# Altium integrated library BV100011_UniversalSlave.IntLib: 122 symbols
Pins are listed as number, name and electrical type; pins without a type are passive.

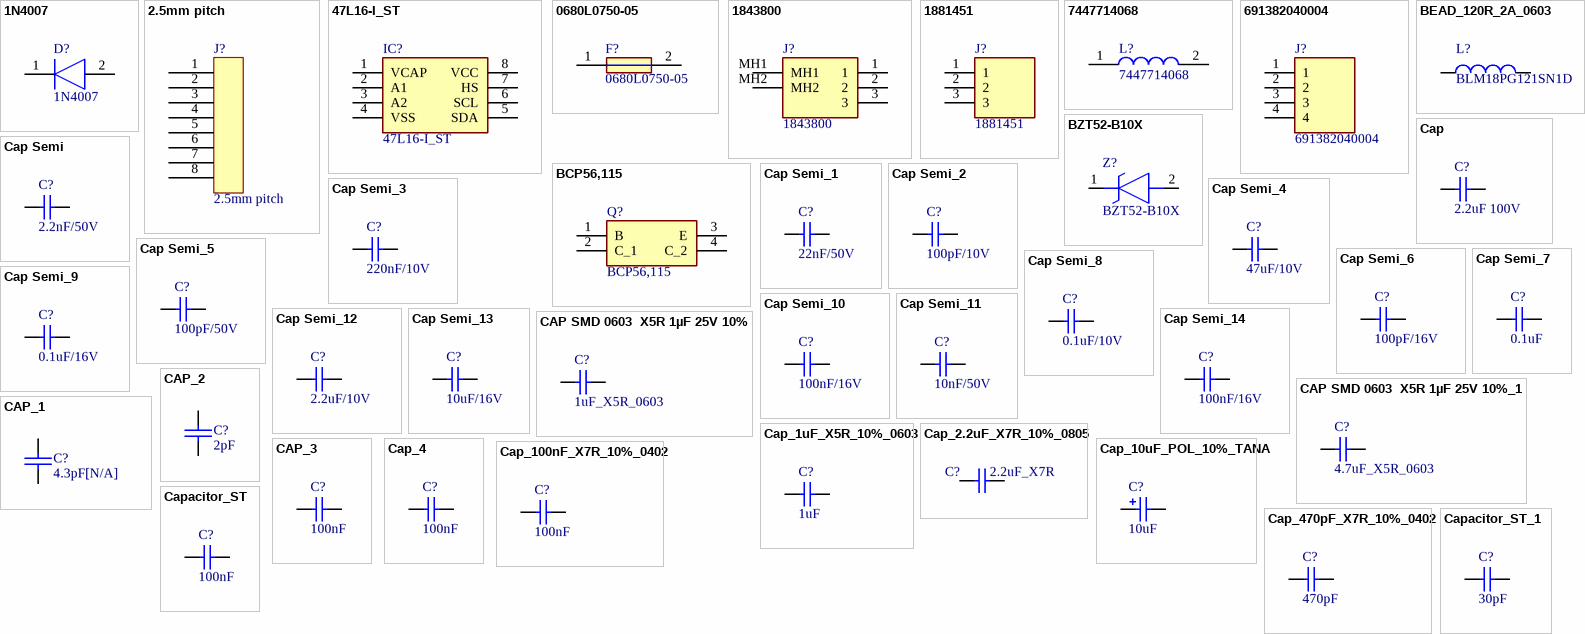
[diagram p0: symbols 1N4007 to Capacitor_ST_1]

## 1N4007
designator D?
Diode; Manufacturer_Name: Shikues
footprint DIOM5327X242N
pins: 1 K, 2 A

## 2.5mm pitch
designator J?
1881503
footprint 2.5mm pitch
pins: 1, 2, 3, 4, 5, 6, 7, 8

## 47L16-I_ST
designator IC?
Integrated Circuit; Manufacturer_Name: Microchip; Manufacturer_Part_Number: 47L16-I/ST
footprint SOP65P640X120-8N
pins: 1 VCAP, 2 A1, 3 A2, 4 VSS, 5 SDA, 6 SCL, 7 HS, 8 VCC

## 0680L0750-05
designator F?
Fuse; Manufacturer_Name: Stewart Connector
footprint FUSC6125X279N
pins: 1, 2

## 1843800
designator J?
Connector; Manufacturer_Name: Phoenix Contact
footprint 1843800
pins: 1, 2, 3, MH1, MH2

## 1881451
designator J?
Connector; Manufacturer_Name: Phoenix Contact
footprint SHDR3W100P0X250_1X3_940X1010X810P
pins: 1, 2, 3

## 7447714068
designator L?
Inductor; Manufacturer_Name: Wurth Elektronik
footprint WE-PD_1030/105054
pins: 1, 2

## 691382040004
designator J?
Connector; Manufacturer_Name: Wurth Elektronik
footprint SHDRRA4W80P0X250_1X4_2200X1010X810P
pins: 1, 2, 3, 4

## BCP56,115
designator Q?
Transistor BJT NPN; Manufacturer_Name: Nexperia
footprint SOT230P700X180-4N
pins: 1 B, 2 C_1, 3 E, 4 C_2

## BEAD_120R_2A_0603
designator L?, comment BLM18PG121SN1D
Bead,120R,2A,0603,BLM18PG121SN1D,MURATA; Manuf_Part_3: FCM1608KF-601T03; Manuf_2: TDK; Manuf_Part_2: MPZ1608S300A; Manuf_3: Tai-tech; Value: 100uH; Description_3: Bead,600R,350mA,0603,FCM1608KF-601T03,Tai-tech; Description_2: Bead,30R,5A,0603,MPZ1608S300A,TDK
footprint 0603 (Footprint not found)
footprint 0603L
pins: 1, 2

## BZT52-B10X
designator Z?
Zener Diode; Manufacturer_Name: Nexperia
footprint SODFL3616X130N
pins: 1 K, 2 A

## Cap
designator C?, comment 2.2uF 100V
Capacitor; Value: 0.01uF
footprint 1206A
footprint VP32-3.2 (Capacitor, Ceramic, Thru-Hole, Dipped Radial; Body 5.1 x 3.2 mm (WxT) Pin Spacing 2.54 mm (typ))
footprint VP45-3.2 (Capacitor, Ceramic, Thru-Hole, Dipped Radial; Body 7.8 x 3.2 mm (WxT) Pin Spacing 5.08 mm (typ))
simulation model CAP (Capacitor)
signal-integrity model Cap
footprint C1210
footprint C1206_H1P25
pins: 1, 2

## Cap Semi
designator C?, comment 2.2nF/50V
Capacitor (Semiconductor SIM Model)
footprint C1206 (Chip Capacitor, Body 3.2x1.6mm, IPC High Density)
footprint 0402 (Chip Capacitor, Body 1.0x0.5mm, IPC High Density)
footprint C2512 (Chip Capacitor, Body 2.54x1.27mm, IPC High Density)
footprint 1608[0603] (Chip Capacitor, Body 1.6x0.8mm, IPC High Density)
footprint C1210 (Chip Capacitor, Body 3.2x2.5mm, IPC High Density)
simulation model CAP (Semiconductor Capacitor)
signal-integrity model Cap Semi
pins: 1, 2

## Cap Semi_1
designator C?, comment 22nF/50V
Capacitor (Semiconductor SIM Model)
footprint C1206 (Chip Capacitor, Body 3.2x1.6mm, IPC High Density)
footprint 0402 (Chip Capacitor, Body 1.0x0.5mm, IPC High Density)
footprint C2512 (Chip Capacitor, Body 2.54x1.27mm, IPC High Density)
footprint 1608[0603] (Chip Capacitor, Body 1.6x0.8mm, IPC High Density)
footprint C1210 (Chip Capacitor, Body 3.2x2.5mm, IPC High Density)
simulation model CAP (Semiconductor Capacitor)
signal-integrity model Cap Semi
pins: 1, 2

## Cap Semi_2
designator C?, comment 100pF/10V
Capacitor (Semiconductor SIM Model)
footprint C1206 (Chip Capacitor, Body 3.2x1.6mm, IPC High Density)
footprint 0402 (Chip Capacitor, Body 1.0x0.5mm, IPC High Density)
footprint C2512 (Chip Capacitor, Body 2.54x1.27mm, IPC High Density)
footprint 1608[0603] (Chip Capacitor, Body 1.6x0.8mm, IPC High Density)
footprint C1210 (Chip Capacitor, Body 3.2x2.5mm, IPC High Density)
simulation model CAP (Semiconductor Capacitor)
signal-integrity model Cap Semi
pins: 1, 2

## Cap Semi_3
designator C?, comment 220nF/10V
Capacitor (Semiconductor SIM Model)
footprint C1206 (Chip Capacitor, Body 3.2x1.6mm, IPC High Density)
footprint 0402 (Chip Capacitor, Body 1.0x0.5mm, IPC High Density)
footprint C2512 (Chip Capacitor, Body 2.54x1.27mm, IPC High Density)
footprint 1608[0603] (Chip Capacitor, Body 1.6x0.8mm, IPC High Density)
footprint C1210 (Chip Capacitor, Body 3.2x2.5mm, IPC High Density)
simulation model CAP (Semiconductor Capacitor)
signal-integrity model Cap Semi
pins: 1, 2

## Cap Semi_4
designator C?, comment 47uF/10V
Capacitor (Semiconductor SIM Model)
footprint C1206 (Chip Capacitor, Body 3.2x1.6mm, IPC High Density)
footprint 0402 (Chip Capacitor, Body 1.0x0.5mm, IPC High Density)
footprint C2512 (Chip Capacitor, Body 2.54x1.27mm, IPC High Density)
footprint 1608[0603] (Chip Capacitor, Body 1.6x0.8mm, IPC High Density)
footprint C1210 (Chip Capacitor, Body 3.2x2.5mm, IPC High Density)
simulation model CAP (Semiconductor Capacitor)
signal-integrity model Cap Semi
pins: 1, 2

## Cap Semi_5
designator C?, comment 100pF/50V
Capacitor (Semiconductor SIM Model)
footprint C1206 (Chip Capacitor, Body 3.2x1.6mm, IPC High Density)
footprint 0402 (Chip Capacitor, Body 1.0x0.5mm, IPC High Density)
footprint C2512 (Chip Capacitor, Body 2.54x1.27mm, IPC High Density)
footprint 1608[0603] (Chip Capacitor, Body 1.6x0.8mm, IPC High Density)
footprint C1210 (Chip Capacitor, Body 3.2x2.5mm, IPC High Density)
simulation model CAP (Semiconductor Capacitor)
signal-integrity model Cap Semi
pins: 1, 2

## Cap Semi_6
designator C?, comment 100pF/16V
Capacitor (Semiconductor SIM Model)
footprint C1206 (Chip Capacitor, Body 3.2x1.6mm, IPC High Density)
footprint 0402 (Chip Capacitor, Body 1.0x0.5mm, IPC High Density)
footprint C2512 (Chip Capacitor, Body 2.54x1.27mm, IPC High Density)
footprint 1608[0603] (Chip Capacitor, Body 1.6x0.8mm, IPC High Density)
footprint C1210 (Chip Capacitor, Body 3.2x2.5mm, IPC High Density)
simulation model CAP (Semiconductor Capacitor)
signal-integrity model Cap Semi
pins: 1, 2

## Cap Semi_7
designator C?, comment 0.1uF
Capacitor (Semiconductor SIM Model); Value: 100pF/16V
footprint C1206 (Chip Capacitor, Body 3.2x1.6mm, IPC High Density)
footprint 0402 (Chip Capacitor, Body 1.0x0.5mm, IPC High Density)
footprint C2512 (Chip Capacitor, Body 2.54x1.27mm, IPC High Density)
footprint 1608[0603] (Chip Capacitor, Body 1.6x0.8mm, IPC High Density)
footprint C1210 (Chip Capacitor, Body 3.2x2.5mm, IPC High Density)
simulation model CAP (Semiconductor Capacitor)
signal-integrity model Cap Semi
pins: 1, 2

## Cap Semi_8
designator C?, comment 0.1uF/10V
Capacitor (Semiconductor SIM Model)
footprint C1206 (Chip Capacitor, Body 3.2x1.6mm, IPC High Density)
footprint 0402 (Chip Capacitor, Body 1.0x0.5mm, IPC High Density)
footprint C2512 (Chip Capacitor, Body 2.54x1.27mm, IPC High Density)
footprint 1608[0603] (Chip Capacitor, Body 1.6x0.8mm, IPC High Density)
footprint C1210 (Chip Capacitor, Body 3.2x2.5mm, IPC High Density)
simulation model CAP (Semiconductor Capacitor)
signal-integrity model Cap Semi
pins: 1, 2

## Cap Semi_9
designator C?, comment 0.1uF/16V
Capacitor (Semiconductor SIM Model)
footprint C1206 (Chip Capacitor, Body 3.2x1.6mm, IPC High Density)
footprint 0402 (Chip Capacitor, Body 1.0x0.5mm, IPC High Density)
footprint C2512 (Chip Capacitor, Body 2.54x1.27mm, IPC High Density)
footprint 1608[0603] (Chip Capacitor, Body 1.6x0.8mm, IPC High Density)
footprint C1210 (Chip Capacitor, Body 3.2x2.5mm, IPC High Density)
simulation model CAP (Semiconductor Capacitor)
signal-integrity model Cap Semi
pins: 1, 2

## Cap Semi_10
designator C?, comment 100nF/16V
Capacitor (Semiconductor SIM Model)
footprint C1206 (Chip Capacitor, Body 3.2x1.6mm, IPC High Density)
footprint 0402 (Chip Capacitor, Body 1.0x0.5mm, IPC High Density)
footprint C2512 (Chip Capacitor, Body 2.54x1.27mm, IPC High Density)
footprint 1608[0603] (Chip Capacitor, Body 1.6x0.8mm, IPC High Density)
footprint C1210 (Chip Capacitor, Body 3.2x2.5mm, IPC High Density)
simulation model CAP (Semiconductor Capacitor)
signal-integrity model Cap Semi
pins: 1, 2

## Cap Semi_11
designator C?, comment 10nF/50V
Capacitor (Semiconductor SIM Model)
footprint C1206 (Chip Capacitor, Body 3.2x1.6mm, IPC High Density)
footprint 0402 (Chip Capacitor, Body 1.0x0.5mm, IPC High Density)
footprint C2512 (Chip Capacitor, Body 2.54x1.27mm, IPC High Density)
footprint 1608[0603] (Chip Capacitor, Body 1.6x0.8mm, IPC High Density)
footprint C1210 (Chip Capacitor, Body 3.2x2.5mm, IPC High Density)
simulation model CAP (Semiconductor Capacitor)
signal-integrity model Cap Semi
pins: 1, 2

## Cap Semi_12
designator C?, comment 2.2uF/10V
Capacitor (Semiconductor SIM Model)
footprint C1206 (Chip Capacitor, Body 3.2x1.6mm, IPC High Density)
footprint 0402 (Chip Capacitor, Body 1.0x0.5mm, IPC High Density)
footprint C2512 (Chip Capacitor, Body 2.54x1.27mm, IPC High Density)
footprint 1608[0603] (Chip Capacitor, Body 1.6x0.8mm, IPC High Density)
footprint C1210 (Chip Capacitor, Body 3.2x2.5mm, IPC High Density)
simulation model CAP (Semiconductor Capacitor)
signal-integrity model Cap Semi
pins: 1, 2

## Cap Semi_13
designator C?, comment 10uF/16V
Capacitor (Semiconductor SIM Model); Value: 2.2nF/50V
footprint C1206 (Chip Capacitor, Body 3.2x1.6mm, IPC High Density)
footprint 0402 (Chip Capacitor, Body 1.0x0.5mm, IPC High Density)
footprint C2512 (Chip Capacitor, Body 2.54x1.27mm, IPC High Density)
footprint 1608[0603] (Chip Capacitor, Body 1.6x0.8mm, IPC High Density)
footprint C1210 (Chip Capacitor, Body 3.2x2.5mm, IPC High Density)
simulation model CAP (Semiconductor Capacitor)
signal-integrity model Cap Semi
pins: 1, 2

## Cap Semi_14
designator C?, comment 100nF/16V
Capacitor (Semiconductor SIM Model); Value: 2.2nF/50V
footprint C1206 (Chip Capacitor, Body 3.2x1.6mm, IPC High Density)
footprint 0402 (Chip Capacitor, Body 1.0x0.5mm, IPC High Density)
footprint C2512 (Chip Capacitor, Body 2.54x1.27mm, IPC High Density)
footprint 1608[0603] (Chip Capacitor, Body 1.6x0.8mm, IPC High Density)
footprint C1210 (Chip Capacitor, Body 3.2x2.5mm, IPC High Density)
simulation model CAP (Semiconductor Capacitor)
signal-integrity model Cap Semi
pins: 1, 2

## CAP SMD 0603  X5R 1µF 25V 10%
designator C?, comment 1uF_X5R_0603
0603  X5R 1µF; Rated voltage: 25V; Tolerance: 10%
footprint 0603C (Footprint not found)
3D model 0603_0_0000_R (PCB3D Model)
simulation model Capacitor
signal-integrity model Capacitor
pins: 1, 2

## CAP SMD 0603  X5R 1µF 25V 10%_1
designator C?, comment 4.7uF_X5R_0603
0603  X5R 4.7uF; Value: 1µF; Rated voltage: 25V; Tolerance: 10%
footprint 0603C (Footprint not found)
3D model 0603_0_0000_R (PCB3D Model)
simulation model Capacitor
signal-integrity model Capacitor
pins: 1, 2

## CAP_1
designator C?, comment 4.3pF[N/A]
Capacitor
footprint 0603 (Footprint not found)
footprint 0603C
pins: 1, 2
2 alternate drawings of the same symbol

## Cap_1uF_X5R_10%_0603
designator C?, comment 1uF
Capacitor,1uF,16V,X5R,10%,0603,YAGEO; Manuf_Part_1: CC0603KRX5R7BB105
simulation model CAP (Capacitor)
signal-integrity model Cap
footprint 0603C
pins: 1, 2

## CAP_2
designator C?, comment 2pF
Capacitor
footprint 0603 (Footprint not found)
footprint 0603C
pins: 1, 2

## Cap_2.2uF_X7R_10%_0805
designator C?, comment 2.2uF_X7R
Capacitor,2.2uF,16V, X7R,10%,0805,YAGEO; Manuf_Part_1: CC0805KKX7R7BB225
simulation model CAP (Capacitor)
signal-integrity model Cap
footprint 0805C
footprint TAN-A
pins: 1, 2

## CAP_3
designator C?, comment 100nF
Capacitor; Value: 100pF
footprint RAD-0.3 (Capacitor; 2 Leads)
simulation model CAP (Capacitor)
signal-integrity model Cap
footprint CAPR5.08-7.8X3.2
footprint CAPR2.54-5.1X3.2
footprint 0603
footprint 0603P
footprint 0603C
footprint 0402C
pins: 1, 2

## Cap_4
designator C?, comment 100nF
Capacitor; Value: 10nF
simulation model CAP (Capacitor)
signal-integrity model Cap
footprint 0603 (Footprint not found)
footprint 0603C (Footprint not found)
pins: 1, 2

## Cap_10uF_POL_10%_TANA
designator C?, comment 10uF
Polarized Capacitor,10uF,10V,10%,typeA,VISHAY; Manuf_Part_1: 293D106X9010A2TE3
simulation model CAP (Capacitor)
signal-integrity model C200M
footprint TAN-A
pins: 1, 2

## Cap_100nF_X7R_10%_0402
designator C?, comment 100nF
Capacitor,100nF,16V,X7R,10%,0402,YAGEO; Manuf_Part_1: CC0402KRX7R7BB104
simulation model CAP (Capacitor)
signal-integrity model Cap
footprint 0402C
pins: 1, 2

## Cap_470pF_X7R_10%_0402
designator C?, comment 470pF
Capacitor,470pF,16V,X7R,10%,0402,YAGEO; Manuf_Part_1: 0402YC471KAT4A; Manuf_1: AVX
simulation model CAP (Capacitor)
signal-integrity model Cap
footprint 0402C
pins: 1, 2

## Capacitor_ST
designator C?, comment 100nF
Capacitor 0402 / 0603 / 0805
simulation model CAP (Capacitor)
signal-integrity model Cap
footprint 0603C
footprint 0402C
footprint 0805C (Footprint not found)
pins: 1, 2

## Capacitor_ST_1
designator C?, comment 30pF
Capacitor 0402 / 0603 / 0805; Value: 100nF
simulation model CAP (Capacitor)
signal-integrity model Cap
footprint 0603C
footprint 0402C
footprint 0805C (Footprint not found)
pins: 1, 2

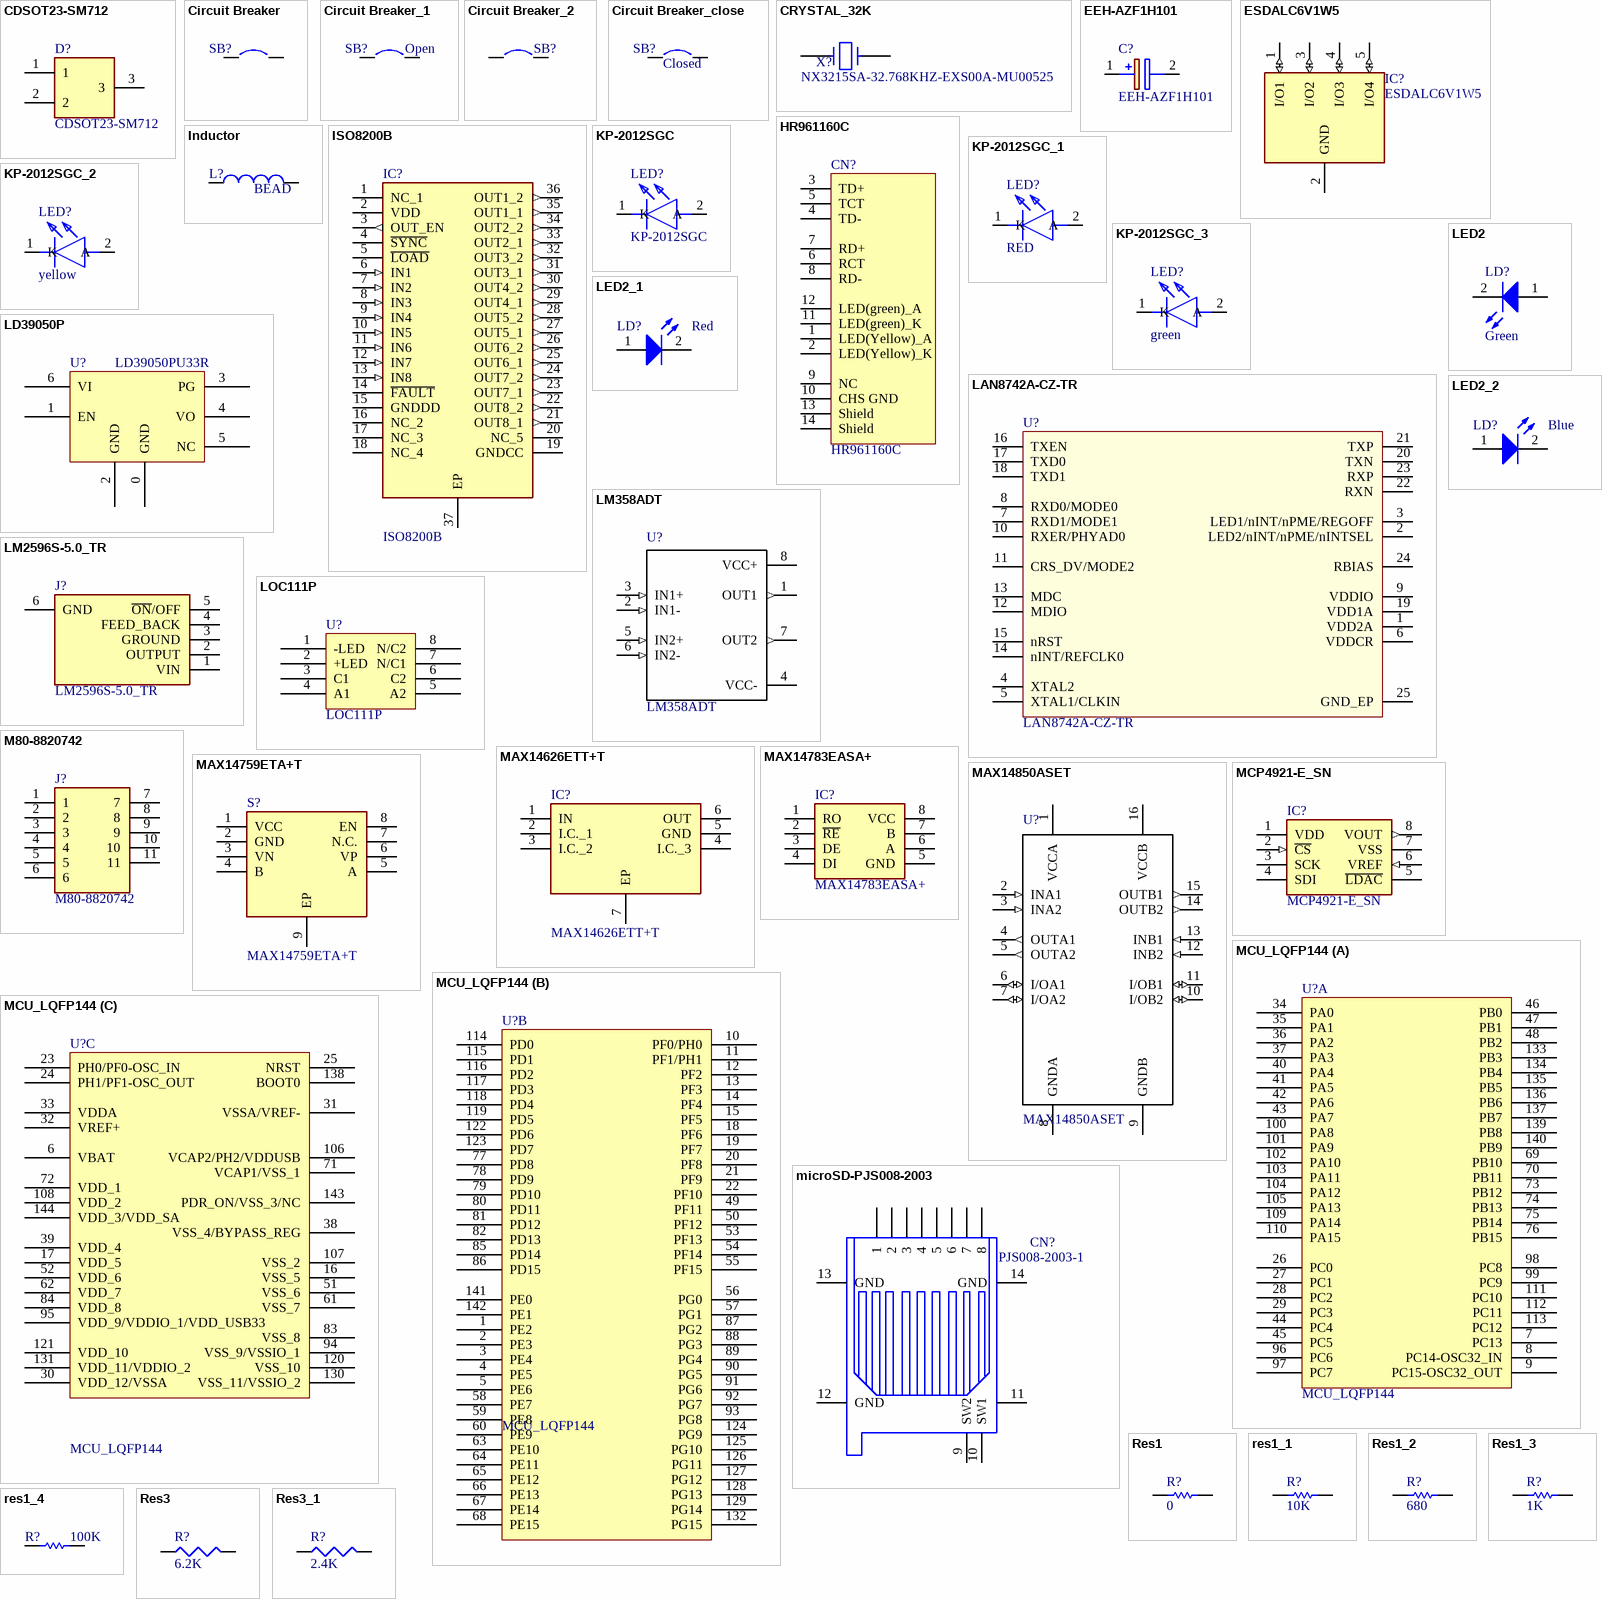
[diagram p1: symbols CDSOT23-SM712 to Res3_1]

## CDSOT23-SM712
designator D?
Diode; Manufacturer_Name: Bourns; Allied_Number: 70154680
footprint SOT95P230X117-3N
pins: 1, 2, 3

## Circuit Breaker
designator SB?  (value not drawn)
Solder: NO
footprint SPST-2 (Circuit Breaker; 2 Leads)
footprint JP2_SMD
footprint SB_0603 (Footprint not found)
pins: 1, 2

## Circuit Breaker_1
designator SB?, comment Open
Circuit Breaker
footprint SPST-2 (Circuit Breaker; 2 Leads)
footprint JP2_SMD
footprint SB_0603 (Footprint not found)
pins: 1, 2

## Circuit Breaker_2
designator SB?, comment Circuit Breaker  (value not drawn)
Solder: NO
footprint SPST-2 (Circuit Breaker; 2 Leads)
footprint JP2_SMD
footprint SB_0603 (Footprint not found)
pins: 1, 2

## Circuit Breaker_close
designator SB?, comment Closed
Circuit Breaker
footprint SPST-2 (Circuit Breaker; 2 Leads)
footprint JP2_SMD
footprint SB_0603 (Footprint not found)
pins: 1, 2

## CRYSTAL_32K
designator X?, comment NX3215SA-32.768KHZ-EXS00A-MU00525
Crystal
footprint XTAL1 (Footprint not found)
footprint XTAL_2SM_3R2X1R5 (Footprint not found)
pins: 1, 2
2 alternate drawings of the same symbol

## EEH-AZF1H101
designator C?
Capacitor Polarised; Manufacturer_Name: Panasonic
footprint CAPPRD500W65D1000H1050
pins: 1 +, 2 -

## ESDALC6V1W5
designator IC?
Integrated Circuit; Manufacturer_Name: STMicroelectronics; Allied_Number: 70389952
footprint SOT65P210X110-5N
footprint SOT65P210X110-5N
pins: 1 I/O1 (io), 2 GND (power), 3 I/O2 (io), 4 I/O3 (io), 5 I/O4 (io)

## HR961160C
designator CN?
100 Base-TX (Fast Ethernet) SMD RJ45 single port (1x1) with LEDS Integrated Magnetics Connector; Manuf_1: HanRun; Manuf_2: Pulse Electronics Corporation; Manuf_Part_2: J3011G21DNLT; Manuf_3: K.O.D International Holding; Manuf_Part_3: RMT-119A-12F6-GY-04
footprint RJ45_HR961160C (Footprint not found)
pins: 1 LED(Yellow)_A, 2 LED(Yellow)_K, 3 TD+, 4 TD-, 5 TCT, 6 RCT, 7 RD+, 8 RD-, 9 NC, 10 CHS GND, 11 LED(green)_K, 12 LED(green)_A, 13 Shield, 14 Shield

## Inductor
designator L?, comment BEAD
Inductor; Value: 100uH
footprint 0603 (Footprint not found)
footprint 0603C
footprint 0603L
pins: 1, 2

## ISO8200B
designator IC?
Integrated Circuit; Manufacturer_Name: STMicroelectronics
footprint SOP65P1420X360-37N
pins: 1 NC_1, 2 VDD (power), 3 OUT_EN (out), 4 ~{SYNC}, 5 ~{LOAD}, 6 IN1 (in), 7 IN2 (in), 8 IN3 (in), 9 IN4 (in), 10 IN5 (in), 11 IN6 (in), 12 IN7 (in), 13 IN8 (in), 14 ~{FAULT}, 15 GNDDD (power), 16 NC_2, 17 NC_3, 18 NC_4, 19 GNDCC (power), 20 NC_5, 21 OUT8_1 (out), 22 OUT8_2 (out), 23 OUT7_1 (out), 24 OUT7_2 (out), 25 OUT6_1 (out), 26 OUT6_2 (out), 27 OUT5_1 (out), 28 OUT5_2 (out), 29 OUT4_1 (out), 30 OUT4_2 (out), 31 OUT3_1 (out), 32 OUT3_2 (out), 33 OUT2_1 (out), 34 OUT2_2 (out), 35 OUT1_1 (out), 36 OUT1_2 (out), 37 EP (power)

## KP-2012SGC
designator LED?
LED; Manufacturer_Name: Kingbright
footprint LEDC2012X110N
pins: 1 K, 2 A

## KP-2012SGC_1
designator LED?, comment RED
LED; Manufacturer_Name: Kingbright; Manufacturer_Part_Number: KP-2012SGC
footprint LEDC2012X110N
pins: 1 K, 2 A

## KP-2012SGC_2
designator LED?, comment yellow
LED; Manufacturer_Name: Kingbright; Manufacturer_Part_Number: KP-2012SGC
footprint LEDC2012X110N
pins: 1 K, 2 A

## KP-2012SGC_3
designator LED?, comment green
LED; Manufacturer_Name: Kingbright; Manufacturer_Part_Number: KP-2012SGC
footprint LEDC2012X110N
pins: 1 K, 2 A

## LAN8742A-CZ-TR
designator U?
LAN8742A-CZ-TR - Small Footprint RMII 10/100 Ethernet, Transceiver with HP Auto-MDIX and flexPWR Technology SQFN-24; Manuf_1: MICROCHIP
footprint QFN24_0R5_4X4 (Footprint not found)
pins: 1 VDD2A, 2 LED2/nINT/nPME/nINTSEL, 3 LED1/nINT/nPME/REGOFF, 4 XTAL2, 5 XTAL1/CLKIN, 6 VDDCR, 7 RXD1/MODE1, 8 RXD0/MODE0, 9 VDDIO, 10 RXER/PHYAD0, 11 CRS_DV/MODE2, 12 MDIO, 13 MDC, 14 nINT/REFCLK0, 15 nRST, 16 TXEN, 17 TXD0, 18 TXD1, 19 VDD1A, 20 TXN, 21 TXP, 22 RXN, 23 RXP, 24 RBIAS, 25 GND_EP

## LD39050P
designator U?, comment LD39050PU33R
footprint DFN6
footprint DFN6(3X3)
footprint DFN6_0R95_3x3_TP (Footprint not found)
pins: 0 GND, 1 EN, 2 GND, 3 PG, 4 VO, 5 NC, 6 VI

## LED2
designator LD?, comment Green
Typical RED, GREEN, YELLOW, AMBER GaAs LED
footprint D0603 (Footprint not found)
footprint 0603D-G (Footprint not found)
pins: 1 A, 2 K

## LED2_1
designator LD?, comment Red
Typical RED, GREEN, YELLOW, AMBER GaAs LED
footprint D0603 (Footprint not found)
footprint 0603D-R (Footprint not found)
pins: 1 A, 2 K

## LED2_2
designator LD?, comment Blue
Typical RED, GREEN, YELLOW, AMBER GaAs LED
footprint D0603 (Footprint not found)
footprint 0603D-B (Footprint not found)
pins: 1 A, 2 K

## LM358ADT
designator U?
LM358 Series 30 V 1.1 MHz Low Power Dual Operational Amplifier - SOIC-8; MF: STMicroelectronics
footprint *SOIC127P600X175-8N
pins: 1 OUT1 (out), 2 IN1- (in), 3 IN1+ (in), 4 VCC- (power), 5 IN2+ (in), 6 IN2- (in), 7 OUT2 (out), 8 VCC+ (power)

## LM2596S-5.0_TR
designator J?
Connector; Manufacturer_Name: National Electronics; Manufacturer_Part_Number: LM2596S-5.0/TR
footprint LM2596S50TR
pins: 1 VIN, 2 OUTPUT, 3 GROUND, 4 FEED_BACK, 5 ~{ON}/OFF, 6 GND

## LOC111P
designator U?
Linear Optocoupler
footprint SOP254P940X265-8N (SOP, 8-Leads, Body 9.65x6.35mm, Pitch 2.54mm, IPC Medium Density)
pins: 1 -LED, 2 +LED, 3 C1, 4 A1, 5 A2, 6 C2, 7 N/C1, 8 N/C2

## M80-8820742
designator J?
Connector; Manufacturer_Name: Harwin
footprint M80-8820742
pins: 1, 2, 3, 4, 5, 6, 7, 8, 9, 10, 11

## MAX14626ETT+T
designator IC?
Integrated Circuit; Manufacturer_Name: Maxim Integrated
footprint SON95P300X300X80-7N
pins: 1 IN, 2 I.C._1, 3 I.C._2, 4 I.C._3, 5 GND, 6 OUT, 7 EP

## MAX14759ETA+T
designator S?
Switch; Manufacturer_Name: Maxim Integrated
footprint SON65P300X300X80-9N
pins: 1 VCC (power), 2 GND (power), 3 VN, 4 B, 5 A, 6 VP, 7 N.C., 8 EN, 9 EP

## MAX14783EASA+
designator IC?
Integrated Circuit; Manufacturer_Name: Maxim Integrated
footprint SOIC127P600X175-8N
pins: 1 RO, 2 ~{RE}, 3 DE, 4 DI, 5 GND, 6 A, 7 B, 8 VCC

## MAX14850ASET
designator U?
Digital Isolator, 6-Ch, 30ns, Nsoic-16; MF: Maxim Integrated; MP: MAX14850ASE+
footprint *SOIC127P600X175-16N
footprint *SOIC127P600X175-16N
pins: 1 VCCA (power), 2 INA1 (in), 3 INA2 (in), 4 OUTA1 (out), 5 OUTA2 (out), 6 I/OA1 (io), 7 I/OA2 (io), 8 GNDA (power), 9 GNDB (power), 10 I/OB2 (io), 11 I/OB1 (io), 12 INB2 (in), 13 INB1 (in), 14 OUTB2 (out), 15 OUTB1 (out), 16 VCCB (power)

## MCP4921-E_SN
designator IC?
Integrated Circuit; Manufacturer_Name: Microchip; Manufacturer_Part_Number: MCP4921-E/SN; Allied_Number: 70046155
footprint SOIC127P600X175-8N
pins: 1 VDD (power), 2 ~{CS} (in), 3 SCK, 4 SDI, 5 ~{LDAC}, 6 VREF (in), 7 VSS (power), 8 VOUT (out)

## MCU_LQFP144
designator U?
footprint TQFP144_M (Footprint not found)
footprint IC149-144-045-B5
footprint LQFP144 (Footprint not found)
footprint LQFP144_0R5_SKT (Footprint not found)
part A pins: 7 PC13, 8 PC14-OSC32_IN, 9 PC15-OSC32_OUT, 26 PC0, 27 PC1, 28 PC2, 29 PC3, 34 PA0, 35 PA1, 36 PA2, 37 PA3, 40 PA4, 41 PA5, 42 PA6, 43 PA7, 44 PC4, 45 PC5, 46 PB0, 47 PB1, 48 PB2, 69 PB10, 70 PB11, 73 PB12, 74 PB13, 75 PB14, 76 PB15, 96 PC6, 97 PC7, 98 PC8, 99 PC9, 100 PA8, 101 PA9, 102 PA10, 103 PA11, 104 PA12, 105 PA13, 109 PA14, 110 PA15, 111 PC10, 112 PC11, 113 PC12, 133 PB3, 134 PB4, 135 PB5, 136 PB6, 137 PB7, 139 PB8, 140 PB9
part B pins: 1 PE2, 2 PE3, 3 PE4, 4 PE5, 5 PE6, 10 PF0/PH0, 11 PF1/PH1, 12 PF2, 13 PF3, 14 PF4, 15 PF5, 18 PF6, 19 PF7, 20 PF8, 21 PF9, 22 PF10, 49 PF11, 50 PF12, 53 PF13, 54 PF14, 55 PF15, 56 PG0, 57 PG1, 58 PE7, 59 PE8, 60 PE9, 63 PE10, 64 PE11, 65 PE12, 66 PE13, 67 PE14, 68 PE15, 77 PD8, 78 PD9, 79 PD10, 80 PD11, 81 PD12, 82 PD13, 85 PD14, 86 PD15, 87 PG2, 88 PG3, 89 PG4, 90 PG5, 91 PG6, 92 PG7, 93 PG8, 114 PD0, 115 PD1, 116 PD2, 117 PD3, 118 PD4, 119 PD5, 122 PD6, 123 PD7, 124 PG9, 125 PG10, 126 PG11, 127 PG12, 128 PG13, 129 PG14, 132 PG15, 141 PE0, 142 PE1
part C pins: 6 VBAT, 16 VSS_5, 17 VDD_5, 23 PH0/PF0-OSC_IN, 24 PH1/PF1-OSC_OUT, 25 NRST, 30 VDD_12/VSSA, 31 VSSA/VREF-, 32 VREF+, 33 VDDA, 38 VSS_4/BYPASS_REG, 39 VDD_4, 51 VSS_6, 52 VDD_6, 61 VSS_7, 62 VDD_7, 71 VCAP1/VSS_1, 72 VDD_1, 83 VSS_8, 84 VDD_8, 94 VSS_9/VSSIO_1, 95 VDD_9/VDDIO_1/VDD_USB33, 106 VCAP2/PH2/VDDUSB, 107 VSS_2, 108 VDD_2, 120 VSS_10, 121 VDD_10, 130 VSS_11/VSSIO_2, 131 VDD_11/VDDIO_2, 138 BOOT0, 143 PDR_ON/VSS_3/NC, 144 VDD_3/VDD_SA

## microSD-PJS008-2003
designator CN?, comment PJS008-2003-1
Memory Card Connectors MicroSD Card Conn Revrs Mnt Push-Push; Manuf_1: YAMAICHI
footprint PJS008-2003-1
pins: 1, 2, 3, 4, 5, 6, 7, 8, 9 SW2, 10 SW1, 11 GND, 12 GND, 13 GND, 14 GND

## Res1
designator R?, comment 0
Resistor; Value: 1K
footprint AXIAL-0.3 (Resistor; 2 Leads)
simulation model RESISTOR (Resistor)
signal-integrity model Res
footprint 0603
footprint 0805
footprint 0603R
pins: 1, 2
1 alternate drawing of the same symbol

## res1_1
designator R?, comment 10K
Resistor; Value: 1K
footprint AXIAL-0.3 (Resistor; 2 Leads)
simulation model RESISTOR (Resistor)
signal-integrity model Res
footprint 0603
footprint 0603R (Footprint not found)
pins: 1, 2
1 alternate drawing of the same symbol

## Res1_2
designator R?, comment 680
Resistor; Value: 1K
footprint AXIAL-0.3 (Resistor; 2 Leads)
simulation model RESISTOR (Resistor)
signal-integrity model Res
footprint 0603
footprint 0805
footprint 0402R
footprint 0603R
pins: 1, 2
1 alternate drawing of the same symbol

## Res1_3
designator R?, comment 1K
Resistor
footprint AXIAL-0.3 (Resistor; 2 Leads)
simulation model RESISTOR (Resistor)
signal-integrity model Res
footprint 0603
footprint 0805
footprint 0402R
footprint 0603R
pins: 1, 2
1 alternate drawing of the same symbol

## res1_4
designator R?, comment 100K
Resistor; Value: 1K
footprint AXIAL-0.3 (Resistor; 2 Leads)
simulation model RESISTOR (Resistor)
signal-integrity model Res
footprint 0603
footprint 0603R (Footprint not found)
pins: 1, 2
1 alternate drawing of the same symbol

## Res3
designator R?, comment 6.2K
Resistor
footprint J1-0603 (Chip Resistor, Body 1.6x0.8mm, IPC High Density)
footprint 14-1210 (Chip Resistor, Body 3.2x2.5mm, IPC High Density)
footprint 12Z-2010 (Chip Resistor, Body 5.0x2.5mm, IPC High Density)
footprint RESC6332 (Chip Resistor, Body 6.3x3.2mm, IPC High Density)
simulation model RESISTOR (Resistor)
signal-integrity model Res
pins: 1, 2

## Res3_1
designator R?, comment 2.4K
Resistor
footprint J1-0603 (Chip Resistor, Body 1.6x0.8mm, IPC High Density)
footprint 14-1210 (Chip Resistor, Body 3.2x2.5mm, IPC High Density)
footprint 12Z-2010 (Chip Resistor, Body 5.0x2.5mm, IPC High Density)
footprint RESC6332 (Chip Resistor, Body 6.3x3.2mm, IPC High Density)
simulation model RESISTOR (Resistor)
signal-integrity model Res
pins: 1, 2

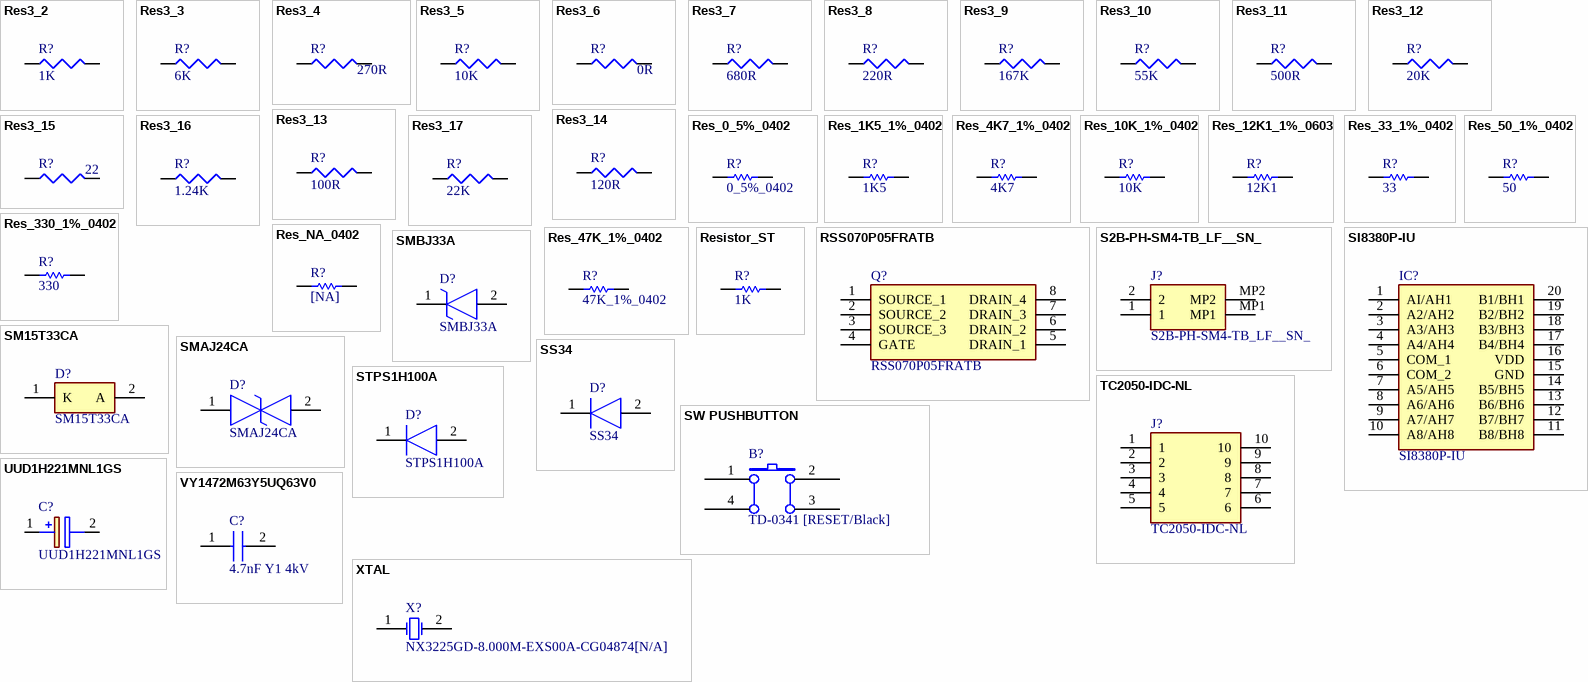
[diagram p2: symbols Res3_2 to XTAL]

## Res3_2
designator R?, comment 1K
Resistor
footprint J1-0603 (Chip Resistor, Body 1.6x0.8mm, IPC High Density)
footprint 14-1210 (Chip Resistor, Body 3.2x2.5mm, IPC High Density)
footprint 12Z-2010 (Chip Resistor, Body 5.0x2.5mm, IPC High Density)
footprint RESC6332 (Chip Resistor, Body 6.3x3.2mm, IPC High Density)
simulation model RESISTOR (Resistor)
signal-integrity model Res
footprint 0402 (Chip Capacitor, Body 1.0x0.5mm, IPC High Density)
pins: 1, 2

## Res3_3
designator R?, comment 6K
Resistor
footprint J1-0603 (Chip Resistor, Body 1.6x0.8mm, IPC High Density)
footprint 14-1210 (Chip Resistor, Body 3.2x2.5mm, IPC High Density)
footprint 12Z-2010 (Chip Resistor, Body 5.0x2.5mm, IPC High Density)
footprint RESC6332 (Chip Resistor, Body 6.3x3.2mm, IPC High Density)
simulation model RESISTOR (Resistor)
signal-integrity model Res
footprint 0805R
pins: 1, 2

## Res3_4
designator R?, comment 270R
Resistor
footprint J1-0603 (Chip Resistor, Body 1.6x0.8mm, IPC High Density)
footprint 14-1210 (Chip Resistor, Body 3.2x2.5mm, IPC High Density)
footprint 12Z-2010 (Chip Resistor, Body 5.0x2.5mm, IPC High Density)
footprint RESC6332 (Chip Resistor, Body 6.3x3.2mm, IPC High Density)
simulation model RESISTOR (Resistor)
signal-integrity model Res
footprint 0402 (Chip Capacitor, Body 1.0x0.5mm, IPC High Density)
pins: 1, 2

## Res3_5
designator R?, comment 10K
Resistor
footprint J1-0603 (Chip Resistor, Body 1.6x0.8mm, IPC High Density)
footprint 14-1210 (Chip Resistor, Body 3.2x2.5mm, IPC High Density)
footprint 12Z-2010 (Chip Resistor, Body 5.0x2.5mm, IPC High Density)
footprint RESC6332 (Chip Resistor, Body 6.3x3.2mm, IPC High Density)
simulation model RESISTOR (Resistor)
signal-integrity model Res
footprint 0402 (Chip Capacitor, Body 1.0x0.5mm, IPC High Density)
pins: 1, 2

## Res3_6
designator R?, comment 0R
Resistor
footprint J1-0603 (Chip Resistor, Body 1.6x0.8mm, IPC High Density)
footprint 14-1210 (Chip Resistor, Body 3.2x2.5mm, IPC High Density)
footprint 12Z-2010 (Chip Resistor, Body 5.0x2.5mm, IPC High Density)
footprint RESC6332 (Chip Resistor, Body 6.3x3.2mm, IPC High Density)
simulation model RESISTOR (Resistor)
signal-integrity model Res
footprint 0402 (Chip Capacitor, Body 1.0x0.5mm, IPC High Density)
pins: 1, 2

## Res3_7
designator R?, comment 680R
Resistor
footprint J1-0603 (Chip Resistor, Body 1.6x0.8mm, IPC High Density)
footprint 14-1210 (Chip Resistor, Body 3.2x2.5mm, IPC High Density)
footprint 12Z-2010 (Chip Resistor, Body 5.0x2.5mm, IPC High Density)
footprint RESC6332 (Chip Resistor, Body 6.3x3.2mm, IPC High Density)
simulation model RESISTOR (Resistor)
signal-integrity model Res
footprint 0402 (Chip Capacitor, Body 1.0x0.5mm, IPC High Density)
pins: 1, 2

## Res3_8
designator R?, comment 220R
Resistor
footprint J1-0603 (Chip Resistor, Body 1.6x0.8mm, IPC High Density)
footprint 14-1210 (Chip Resistor, Body 3.2x2.5mm, IPC High Density)
footprint 12Z-2010 (Chip Resistor, Body 5.0x2.5mm, IPC High Density)
footprint RESC6332 (Chip Resistor, Body 6.3x3.2mm, IPC High Density)
simulation model RESISTOR (Resistor)
signal-integrity model Res
pins: 1, 2

## Res3_9
designator R?, comment 167K
Resistor
footprint J1-0603 (Chip Resistor, Body 1.6x0.8mm, IPC High Density)
footprint 14-1210 (Chip Resistor, Body 3.2x2.5mm, IPC High Density)
footprint 12Z-2010 (Chip Resistor, Body 5.0x2.5mm, IPC High Density)
footprint RESC6332 (Chip Resistor, Body 6.3x3.2mm, IPC High Density)
simulation model RESISTOR (Resistor)
signal-integrity model Res
pins: 1, 2

## Res3_10
designator R?, comment 55K
Resistor
footprint J1-0603 (Chip Resistor, Body 1.6x0.8mm, IPC High Density)
footprint 14-1210 (Chip Resistor, Body 3.2x2.5mm, IPC High Density)
footprint 12Z-2010 (Chip Resistor, Body 5.0x2.5mm, IPC High Density)
footprint RESC6332 (Chip Resistor, Body 6.3x3.2mm, IPC High Density)
simulation model RESISTOR (Resistor)
signal-integrity model Res
pins: 1, 2

## Res3_11
designator R?, comment 500R
Resistor
footprint J1-0603 (Chip Resistor, Body 1.6x0.8mm, IPC High Density)
footprint 14-1210 (Chip Resistor, Body 3.2x2.5mm, IPC High Density)
footprint 12Z-2010 (Chip Resistor, Body 5.0x2.5mm, IPC High Density)
footprint RESC6332 (Chip Resistor, Body 6.3x3.2mm, IPC High Density)
simulation model RESISTOR (Resistor)
signal-integrity model Res
pins: 1, 2

## Res3_12
designator R?, comment 20K
Resistor
footprint J1-0603 (Chip Resistor, Body 1.6x0.8mm, IPC High Density)
footprint 14-1210 (Chip Resistor, Body 3.2x2.5mm, IPC High Density)
footprint 12Z-2010 (Chip Resistor, Body 5.0x2.5mm, IPC High Density)
footprint RESC6332 (Chip Resistor, Body 6.3x3.2mm, IPC High Density)
simulation model RESISTOR (Resistor)
signal-integrity model Res
pins: 1, 2

## Res3_13
designator R?, comment 100R
Resistor
footprint J1-0603 (Chip Resistor, Body 1.6x0.8mm, IPC High Density)
footprint 14-1210 (Chip Resistor, Body 3.2x2.5mm, IPC High Density)
footprint 12Z-2010 (Chip Resistor, Body 5.0x2.5mm, IPC High Density)
footprint RESC6332 (Chip Resistor, Body 6.3x3.2mm, IPC High Density)
simulation model RESISTOR (Resistor)
signal-integrity model Res
pins: 1, 2

## Res3_14
designator R?, comment 120R
Resistor
footprint J1-0603 (Chip Resistor, Body 1.6x0.8mm, IPC High Density)
footprint 14-1210 (Chip Resistor, Body 3.2x2.5mm, IPC High Density)
footprint 12Z-2010 (Chip Resistor, Body 5.0x2.5mm, IPC High Density)
footprint RESC6332 (Chip Resistor, Body 6.3x3.2mm, IPC High Density)
simulation model RESISTOR (Resistor)
signal-integrity model Res
pins: 1, 2

## Res3_15
designator R?, comment 22
Resistor
footprint J1-0603 (Chip Resistor, Body 1.6x0.8mm, IPC High Density)
footprint 14-1210 (Chip Resistor, Body 3.2x2.5mm, IPC High Density)
footprint 12Z-2010 (Chip Resistor, Body 5.0x2.5mm, IPC High Density)
footprint RESC6332 (Chip Resistor, Body 6.3x3.2mm, IPC High Density)
simulation model RESISTOR (Resistor)
signal-integrity model Res
pins: 1, 2

## Res3_16
designator R?, comment 1.24K
Resistor
footprint J1-0603 (Chip Resistor, Body 1.6x0.8mm, IPC High Density)
footprint 14-1210 (Chip Resistor, Body 3.2x2.5mm, IPC High Density)
footprint 12Z-2010 (Chip Resistor, Body 5.0x2.5mm, IPC High Density)
footprint RESC6332 (Chip Resistor, Body 6.3x3.2mm, IPC High Density)
simulation model RESISTOR (Resistor)
signal-integrity model Res
pins: 1, 2

## Res3_17
designator R?, comment 22K
Resistor
footprint J1-0603 (Chip Resistor, Body 1.6x0.8mm, IPC High Density)
footprint 14-1210 (Chip Resistor, Body 3.2x2.5mm, IPC High Density)
footprint 12Z-2010 (Chip Resistor, Body 5.0x2.5mm, IPC High Density)
footprint RESC6332 (Chip Resistor, Body 6.3x3.2mm, IPC High Density)
simulation model RESISTOR (Resistor)
signal-integrity model Res
pins: 1, 2

## Res_0_5%_0402
designator R?, comment 0_5%_0402
Resistor,0,0402,5%,YAGEO; Manuf_Part_1: RC0402JR-070RL; Value: 0; Order: 2363467
footprint 0402R
pins: 1, 2

## Res_1K5_1%_0402
designator R?, comment 1K5
Resistor,1K5,0402,1%,YAGEO; Manuf_Part_1: RC0402FR-071K5L
footprint 0402R
footprint 0603R
footprint 0805R (Footprint not found)
footprint 0603R-GS
footprint 1206R (Footprint not found)
pins: 1, 2

## Res_4K7_1%_0402
designator R?, comment 4K7
Resistor,4K7,0402,1%,YAGEO; Manuf_Part_1: RT0402FRE074K7L
footprint 0402R
footprint 0603R
footprint 0805R (Footprint not found)
footprint 0603R-GS
footprint 1206R (Footprint not found)
pins: 1, 2

## Res_10K_1%_0402
designator R?, comment 10K
Resistor,10K,0402,1%,YAGEO; Manuf_Part_1: RC0402FR-0710KL
footprint 0402R
footprint 0603R
footprint 0805R (Footprint not found)
footprint 0603R-GS
footprint 1206R (Footprint not found)
pins: 1, 2

## Res_12K1_1%_0603
designator R?, comment 12K1
Resistor,12K1,0603,1%,VISHAY; Manuf_Part_1: MCT 0603-50 1% P5 12K1; Order: 2325243
footprint 0603R
footprint 0603R-GS
pins: 1, 2

## Res_33_1%_0402
designator R?, comment 33
Resistor,33,0402,1%,YAGEO; Manuf_Part_1: RC0402FR-0733RL
footprint 0402R
footprint 0603R
footprint 0805R (Footprint not found)
footprint 0603R-GS
footprint 1206R (Footprint not found)
pins: 1, 2

## Res_47K_1%_0402
designator R?, comment 47K_1%_0402
Resistor,47K,0402,1%,YAGEO; Manuf_Part_1: RC0402FR-0747KL; Order: 9239430
footprint 0402R
footprint 0603R
footprint 0805R (Footprint not found)
footprint 0603R-GS
footprint 1206R (Footprint not found)
pins: 1, 2

## Res_50_1%_0402
designator R?, comment 50
Resistor,50,0402,1%,YAGEO; Manuf_Part_1: RC0402FR-0749R9L; Value: 49.9
footprint 0402R
footprint 0603R
footprint 0805R (Footprint not found)
footprint 0603R-GS
footprint 1206R (Footprint not found)
pins: 1, 2

## Res_330_1%_0402
designator R?, comment 330
Resistor,330,0402,1%,YAGEO; Manuf_Part_1: RC0402FR-07330RL
footprint 0402R
pins: 1, 2

## Res_NA_0402
designator R?, comment [NA]
Resistor,[NA],0402; Fitted: NO
footprint 0402R
pins: 1, 2

## Resistor_ST
designator R?, comment 1K
Resistor 0402 / 0603 / 0805; Value: 10K
footprint 0402R
footprint 0603R
footprint 0805R (Footprint not found)
footprint 0603R-GS
pins: 1, 2

## RSS070P05FRATB
designator Q?
MOSFET (P-Channel); Manufacturer_Name: ROHM Semiconductor
footprint SOIC127P600X175-8N
pins: 1 SOURCE_1, 2 SOURCE_2, 3 SOURCE_3, 4 GATE, 5 DRAIN_1, 6 DRAIN_2, 7 DRAIN_3, 8 DRAIN_4

## S2B-PH-SM4-TB_LF__SN_
designator J?
Connector; Manufacturer_Name: JST Sales America; Manufacturer_Part_Number: S2B-PH-SM4-TB(LF)(SN)
footprint S2BPHSM4TBLFSN
pins: 1, 2, MP1, MP2

## SI8380P-IU
designator IC?
Integrated Circuit; Manufacturer_Name: Silicon Labs
footprint SOP64P600X175-20N
pins: 1 AI/AH1, 2 A2/AH2, 3 A3/AH3, 4 A4/AH4, 5 COM_1, 6 COM_2, 7 A5/AH5, 8 A6/AH6, 9 A7/AH7, 10 A8/AH8, 11 B8/BH8, 12 B7/BH7, 13 B6/BH6, 14 B5/BH5, 15 GND, 16 VDD, 17 B4/BH4, 18 B3/BH3, 19 B2/BH2, 20 B1/BH1

## SM15T33CA
designator D?
Diode; Manufacturer_Name: STMicroelectronics; Allied_Number: 70390412
footprint DIONM8059X265N
pins: 1 K, 2 A

## SMAJ24CA
designator D?
TVS Diode (Bi-directional); Manufacturer_Name: LITTELFUSE
footprint DIONM5026X229N
pins: 1 K, 2 A

## SMBJ33A
designator D?
TVS Diode (Uni-directional); Manufacturer_Name: ON Semiconductor
footprint DIOM5336X265N
pins: 1 K, 2 A

## SS34
designator D?
Diode; Manufacturer_Name: HY Electronic Corp
footprint DIOM6959X262N
pins: 1 K, 2 A

## STPS1H100A
designator D?
Diode; Manufacturer_Name: STMicroelectronics; Allied_Number: 70014065
footprint DIOM5126X265N
pins: 1 K, 2 A

## SW PUSHBUTTON
designator B?, comment TD-0341 [RESET/Black]
SE PUSHBUTTON
footprint PB (Footprint not found)
footprint PB10
footprint BP1CMS
footprint PB-6X6mm-Black (Footprint not found)
pins: 1 A0, 2 B0, 3 B1, 4 A1

## TC2050-IDC-NL
designator J?
Plug-Of-Nails™ Adapter Cable; MF: Tag-Connect LLC
footprint CON_TAG-C_TC2050-IDC-NL
pins: 1, 2, 3, 4, 5, 6, 7, 8, 9, 10

## UUD1H221MNL1GS
designator C?
Capacitor Polarised; Manufacturer_Name: Nichicon
footprint CAPAE1030X1050N
pins: 1 +, 2 -

## VY1472M63Y5UQ63V0
designator C?, comment 4.7nF Y1 4kV
Capacitor; Manufacturer_Name: VISHAY BC COMPONENTS; Manufacturer_Part_Number: VY1472M63Y5UQ63V0; Allied_Number: 70122998
footprint VY1472M63Y5UQ63V0
pins: 1, 2

## XTAL
designator X?, comment NX3225GD-8.000M-EXS00A-CG04874[N/A]
Crystal Oscillator
footprint R38
footprint XTAL1
footprint HOSC-L500HW320H105-4_V (Quartz Crystal, Body 5.0 x 3.2 mm, Height 1.05mm)
footprint NDK_NX3225GD (NDK 8M Hz  3.2 x 2.5 mm)
footprint XTAL_3225 (Footprint not found)
footprint OSC_2SM_3R2x2R5 (Footprint not found)
pins: 1 OSC1, 2 OSC2
2 alternate drawings of the same symbol

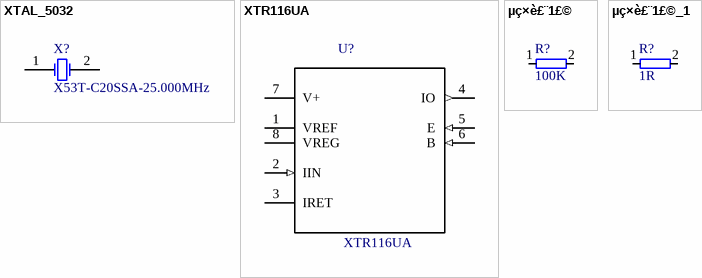
[diagram p3: symbols XTAL_5032 to µç×è£¨1£©_1]

## XTAL_5032
designator X?, comment X53T-C20SSA-25.000MHz
Crystal Oscillator
footprint R38
footprint XTAL1
footprint HOSC-L500HW320H105-4_V (Quartz Crystal, Body 5.0 x 3.2 mm, Height 1.05mm)
footprint NDK_NX3225GD (NDK 8M Hz  3.2 x 2.5 mm)
footprint XTAL_5032 (Footprint not found)
footprint XTAL_2SM_5R0X3R2 (Footprint not found)
pins: 1 OSC1, 2 OSC2
2 alternate drawings of the same symbol

## XTR116UA
designator U?
Sensors, Sensor Conditioning, 4-20mA Transmitters 4-20mA Current Loop Transmitters; MF: Texas Instruments
footprint *SOIC127P600X175-8N
pins: 1 VREF, 2 IIN (in), 3 IRET, 4 IO (out), 5 E (in), 6 B (in), 7 V+ (power), 8 VREG

## µç×è£¨1£©
designator R?, comment 100K
Resistor
footprint 0603A
footprint 0805
footprint R0603
pins: 1, 2

## µç×è£¨1£©_1
designator R?, comment 1R
Resistor
footprint 0603A
footprint 0805
footprint R0603
footprint R0805
pins: 1, 2